# Altium footprint library ATK-2014-09-12.PcbLib: 436 footprints (part 17 of 28)
Each footprint in its own frame and in the unit in brackets; x right, y up, seen from the top. Pads: shape width x height; smd on the part's side, far side on the other; paste and mask are expansions set on the pad; w line width, h text height; cw(c..) or ccw(c..) is an arc to the next point about the centre after c.
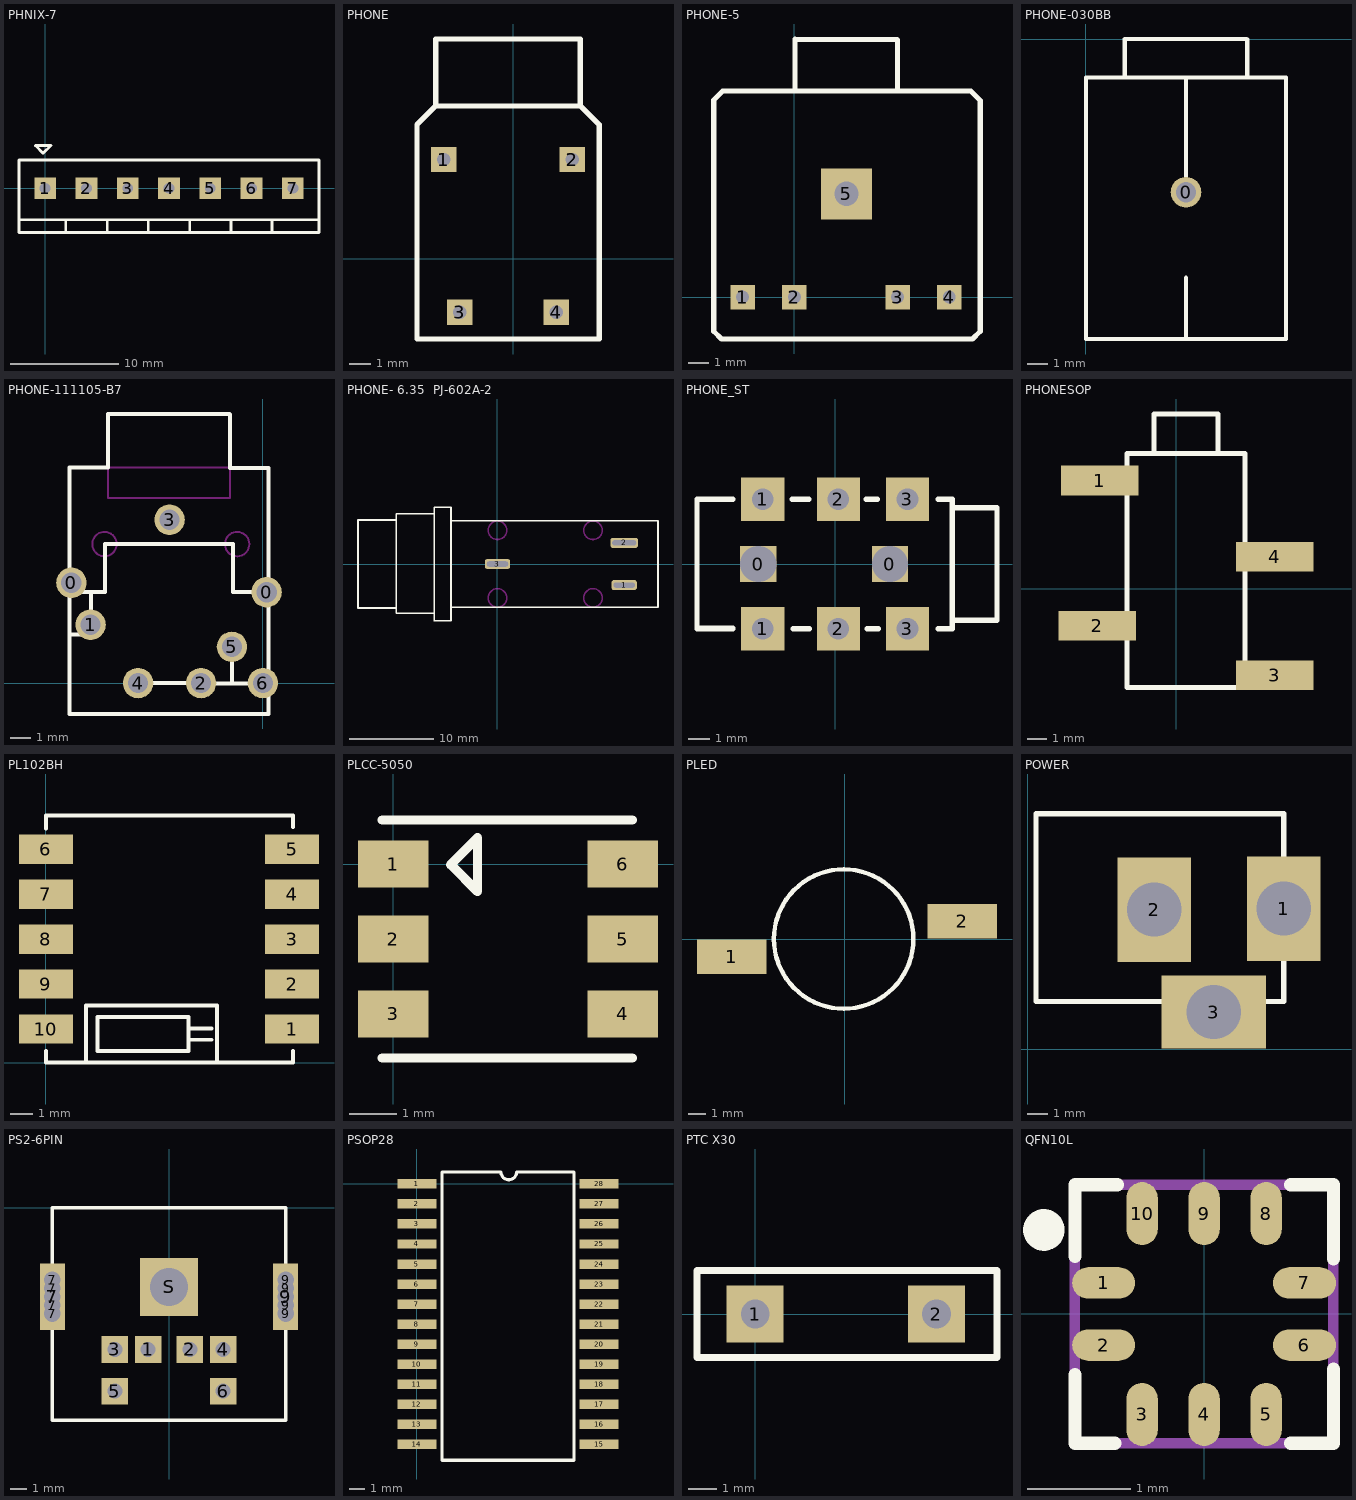
[diagram p16: the footprints below, top view; thin cyan lines are the x and y axes]

## PHNIX-7 [mm] "名字不太对"
height 9
pads (7):
  rect 2x2 hole 1: 1(0,0) 2(3.81,0) 3(7.62,0) 4(11.43,0) 5(15.24,0) 6(19.05,0) 7(22.86,0)
Top Overlay:
  lines w0.254: -2.413,-2.91 25.203,-2.91 ; 1.9,-4.1 1.9,-3.084 ; 5.72,-4.1 5.72,-2.957 ; 9.51,-4.1 9.51,-3.084 ; 13.35,-4.1 13.35,-3.084 ; 17.16,-4.1 17.16,-2.957 ; 20.94,-4.1 20.94,-2.91 ; -2.413,-4.1 -2.413,2.61 25.273,2.61 25.273,-4.1 -2.413,-4.1 ; -0.894,3.924 -0.867,3.95 0.54,3.95 -0.19,3.22 -0.894,3.924

## PHONE [mm]
height 0.6
pads (4):
  rect 1.2x1.2 hole 0.635: 1(-3.302,4.699) 2(2.794,4.699) 3(-2.54,-2.54) 4(2.032,-2.54)
Top Overlay:
  lines w0.254: -3.683,7.239 3.175,7.239 ; -3.683,7.239 -4.572,6.35 -4.572,-3.81 4.064,-3.81 4.064,6.35 3.175,7.239 ; -3.683,7.239 -3.683,10.414 -0.127,10.414 3.175,10.414 3.175,7.239

## PHONE-5 [mm] "PHONE_5"
height 5
pads (5):
  rect 1.2x1.2 hole 0.635: 1(-2.54,0) 2(0,0) 3(5.08,0) 4(7.62,0)
  rect 2.5x2.5 hole 1.2: 5(2.565,5.08)
Top Overlay:
  lines w0.254: 0.025,10.135 0.025,12.7 0.051,12.675 5.055,12.675 5.08,12.649 5.08,10.135 ; -3.962,-1.676 -3.581,-2.057 8.763,-2.057 9.144,-1.676 9.144,9.677 8.687,10.135 2.565,10.135 -3.531,10.135 -3.962,9.703 -3.962,-1.676

## PHONE-030BB [mm]
pads (1):
  round 1.5 hole 1: 0(4.902,-7.493)
Top Overlay:
  lines w0.2: 0,-14.681 9.8,-14.681 ; 0,-14.67 0,-1.905 ; 0,-1.88 1.905,-1.88 1.905,0 7.874,0 7.899,-0.025 7.899,-1.88 ; 1.899,-1.88 7.899,-1.88 ; 4.902,-14.681 4.902,-11.684 ; 4.902,-7.48 4.902,-1.88 ; 9.779,-1.88 7.899,-1.88 ; 9.804,-14.681 9.804,-1.88

## PHONE-111105-B7 [mm]
pads (8):
  round 1.5 hole 1: 0(-9.423,4.928) 0(0.178,4.47) 1(-8.484,2.87) 2(-3.048,0) 3(-4.597,8.026) 4(-6.147,0) 5(-1.524,1.778) 6(0,0)
Top Overlay:
  lines w0.2: -9.525,4.47 -7.772,4.47 ; -9.5,2.388 -8.458,2.388 -8.458,4.47 ; -7.772,4.473 -7.772,6.833 -1.472,6.833 ; -7.62,10.592 -9.525,10.592 -9.525,-1.524 0.279,-1.524 0.279,10.566 -1.626,10.566 ; -7.62,10.617 -7.62,13.081 -7.62,13.183 ; -7.62,13.233 -1.651,13.233 ; -6.148,0 -3.073,0 ; -4.597,7.518 -4.597,8.052 ; -3.048,-0.025 0,-0.025 ; -1.626,10.617 -1.626,13.208 ; -1.524,-0.025 -1.524,1.775 ; -1.473,4.47 0.254,4.47 ; -1.473,4.473 -1.473,6.833 ; 0,0 0.254,0
Keep-Out Layer:
  circle w0.1: c-7.798,6.833 r0.6
  circle w0.1: c-1.27,6.833 r0.6
  lines w0.1: -7.62,9.093 -1.626,9.093 -1.626,10.592 -7.62,10.592 -7.62,9.093

## PHONE- 6.35  PJ-602A-2 [mm]
pads (3):
  rrect50% 3x1.2 hole 0.6 slot 2.5 at 0 deg: 1(15,-2.5) 3(0,0)
  rrect50% 3.3x1.2 hole 0.6 slot 2.8 at 0 deg: 2(15,2.5)
Top Overlay:
  lines w0.2: -16.51,-5.207 -12.04,-5.207 ; -16.51,5.207 -12.014,5.207 ; -16.5,-5.2 -16.5,5.2 ; -7.518,-5.842 -12,-5.842 -12,5.944 -7.518,5.944 ; -7.5,6.7 -7.5,-6.699 -7.493,-6.706 -5.512,-6.706 ; -7.493,6.706 -5.512,6.706 ; -5.5,-6.7 -5.5,6.7 ; -5.5,-5.105 19,-5.105 19,5.105 -5.486,5.105 -5.499,5.093 -5.486,5.08
Keep-Out Layer:
  circle w0.2: c0,3.988 r1.1
  circle w0.2: c0,-4.013 r1.1
  circle w0.2: c11.303,-4.013 r1.1
  circle w0.2: c11.303,3.988 r1.1

## PHONE_ST [mm] "PHONE_ST"
height 9
pads (8):
  rect 1.676x1.676 hole 1.676: 0(-3.556,0) 0(2.54,0)
  rect 2x2 hole 1: 1(-3.35,-3) 1(-3.35,3) 2(0.15,-3) 2(0.15,3) 3(3.35,-3) 3(3.35,3)
Top Overlay:
  lines w0.254: -6.393,-2.969 -4.742,-2.969 ; -4.742,-3.007 -6.393,-3.007 -6.393,3 -4.742,3 ; -1.986,3 -1.224,3 ; -1.948,-3.007 -1.186,-3.007 ; 1.443,3 1.951,3 ; 1.481,-3.007 1.989,-3.007 ; 4.783,-3.007 5.33,-3.007 ; 4.783,3 5.418,3 5.418,-3.007 ; 5.418,-2.6 7.493,-2.6 7.493,2.6 5.418,2.6

## PHONESOP [mil]
height 196.85
pads (4):
  rect 157.48x60 smd: 1(-155,220) 2(-160,-75) 3(200,-175) 4(200,65)
Top Overlay:
  lines w10: -45,275 -45,355 85,355 85,275 ; -100,-200 -100,275 140,275 140,-200 -100,-200

## PL102BH [mm] "PL102BH-2.0"
height 1
pads (10):
  rect 2.4x1.3 smd: 1(10.952,1.492) 2(10.952,3.492) 3(10.952,5.492) 4(10.952,7.492) 5(10.952,9.492) 6(0,9.492) 7(0,7.492) 8(0,5.492) 9(0,3.492) 10(0,1.492)
Top Overlay:
  lines w0.178: 0,0.508 0,0 11,0 11,0.508 ; 0,10.414 0,11 11,11 11,10.492 ; 1.778,0 1.778,2.54 7.62,2.54 7.62,0 ; 6.35,1.016 7.366,1.016 ; 6.35,1.524 7.366,1.524 ; 2.286,0.508 6.35,0.508 6.35,2.032 2.286,2.032 2.286,0.508

## PLCC-5050 [mm] "SOP_RGB"
height 1.6
pads (6):
  rect 1.5x1 smd: 1(0,0) 2(0,-1.6) 3(0,-3.2) 4(4.9,-3.2) 5(4.9,-1.6) 6(4.9,0)
Top Overlay:
  lines w0.2: -0.233,-4.14 5.101,-4.14 ; -0.233,0.94 5.101,0.94 ; 1.228,-0.012 1.291,0.051 1.799,0.559 1.799,-0.584 1.228,-0.012

## PLED [mm] "POWER LED"
height 5
pads (2):
  rect 4x2 smd: 1(-6.477,-1.016) 2(6.731,1.016)
Top Overlay:
  circle w0.254: c-0.063,0 r4

## POWER [mil] "DC_IN"
height 472.44
pads (3):
  rect 138x197 hole 102: 1(482.32,265.16) 2(238.32,263.16)
  rect 197x138 hole 102: 3(350.32,70.16)
Top Overlay:
  lines w10: 482.32,90.16 15.32,90.16 15.32,444.16 482.32,444.16 482.32,92.16

## PS2-6PIN [mm] "PS2 Socket, 6 Pin, Through Hole"
pads (17):
  rect 1.6x1.6 hole 0.9: 1(-1.25,-8.5) 2(1.25,-8.5) 3(-3.25,-8.5) 4(3.25,-8.5) 5(-3.25,-11) 6(3.25,-11)
  rect 1x1 hole 1: 7(-7,-6.35) 7(-7,-5.842) 7(-7,-4.826) 7(-7,-4.318) 9(7,-6.35) 9(7,-5.842) 9(7,-4.826) 9(7,-4.318)
  rect 1.5x4 hole 1: 7(-7,-5.334) 9(7,-5.334)
  rect 3.5x3.5 hole 2.3: S(0,-4.75)
Top Overlay:
  lines w0.2: -7,-12.75 7,-12.75 7,0 -7,0 -7,-12.75

## PSOP28 [mm] "e:1,27mm;H:11.81mm;D:18.11mm;B:0.41mm;"
height 2.8
pads (28):
  rect 2.5x0.6 smd: 1(0.013,0) 2(0.013,-1.27) 3(0.013,-2.54) 4(0.013,-3.81) 5(0.013,-5.08) 6(0.013,-6.35) 7(0.013,-7.62) 8(0.013,-8.89) 9(0.013,-10.16) 10(0.013,-11.43) 11(0.013,-12.7) 12(0.013,-13.97) 13(0.013,-15.24) 14(0.013,-16.51) 15(11.557,-16.51) 16(11.557,-15.24) 17(11.557,-13.97) 18(11.557,-12.7) 19(11.557,-11.43) 20(11.557,-10.16) 21(11.557,-8.89) 22(11.557,-7.62) 23(11.557,-6.35) 24(11.557,-5.08) 25(11.557,-3.81) 26(11.557,-2.54) 27(11.557,-1.27) 28(11.557,0)
Top Overlay:
  lines w0.2: 6.334,0.762 cw(c5.834,0.762) 5.334,0.762 1.594,0.762 1.594,-17.526 9.962,-17.526 9.962,0.762 6.35,0.762

## PTC X30 [mm] "UF300 X300;30V,3A."
height 13
pads (2):
  rect 2x2 hole 1: 1(0,0) 2(6.35,0)
Top Overlay:
  lines w0.254: -2.032,-1.524 8.468,-1.524 8.468,1.524 -2.032,1.524 -2.032,-1.524

## QFN10L [mil] "QFN, 10-Leads, Body 2.5x2.5mm (max), Pitch 0.60mm, IPC High Density"
height 43.31
pads (10):
  oval 24x12 smd: 1(-38.23,11.81) 2(-38.23,-11.81) 6(38.23,-11.81) 7(38.23,11.81)
  oval 12x24 smd: 3(-23.62,-38.23) 4(0,-38.23) 5(23.62,-38.23) 8(23.62,38.23) 9(0,38.23) 10(-23.62,38.23)
Top Overlay:
  circle w9.84: c-61,32 r3
  lines w5: -49.21,-23 -49.21,-49.21 -34,-49.21 ; -49.21,22 -49.21,49.21 -33,49.21 ; 33,-49.21 49.21,-49.21 49.21,-21 ; 33,49.21 49.21,49.21 49.21,21
Mechanical 13:
  lines w3.94: -49.21,-49.21 49.21,-49.21 49.21,49.21 -49.21,49.21 -49.21,-49.21
3D body: height 43.31, standoff 0, extent -49.21,-49.21 49.21,49.21